# EAGLE library part HA3116 (library A-14732-40009)
Hitachi HA13116 audio amplifier in ZIP15 package
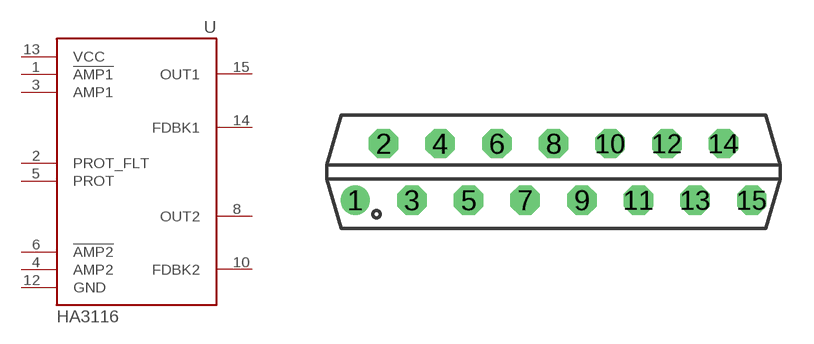
[diagram p8: symbol with the pads of ZIP15; footprint ZIP15]

Designator prefix U

## HA3116  [ZIP15]
1  !AMP1  pas
2  PROT_FLT  pas
3  AMP1  pas
4  AMP2  pas
5  PROT  pas
6  !AMP2  pas
8  OUT2  out
10  FDBK2  pas
12  GND  pwr
13  VCC  pwr
14  FDBK1  pas
15  OUT1  out

## Footprint ZIP15 (pad centres in mm)
Zig-zag In Line 15 pin
drill 0.813: 1 -10.16,-1.27
drill 0.813 octagon: 2 -8.89,1.27; 3 -7.62,-1.27; 4 -6.35,1.27; 5 -5.08,-1.27; 6 -3.81,1.27; 7 -2.54,-1.27; 8 -1.27,1.27; 9 0,-1.27; 10 1.27,1.27; 11 2.54,-1.27; 12 3.81,1.27; 13 5.08,-1.27; 14 6.35,1.27; 15 7.62,-1.27